# EAGLE library part MICRO-USB-RECEPTACLE (library con-molex-usb)
MICRO USB RECEPTACLES Micro-USB Receptacles, SMT, Lead-Free from MOLEX <http://www.molex.com/>. (C) 2014 Tomasz Boleslaw CEDRO, cederom@tlen.pl, http://www.tomek.cedro.info. Version 0.1 (2014-01-17): Initial release. Version 0.2 (2014-02-06): Updated 47589-0001 footprint pins/pads/milling. Following devices are included: 1. 47589-0001 Micro-USB AB Receptacle, Bottom Mount, SMT, Lead-Free <http://www.molex.com/molex/products/datasheet.jsp?part=active/0475890001_IO_CONNECTORS.xml> (Technical Drawing <http://www.molex.com/pdm_docs/sd/475890001_sd.pdf>).
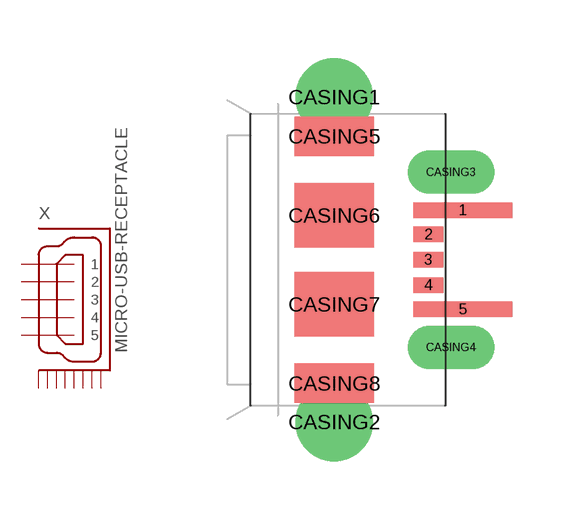
[diagram p0: symbol with the pads of 47589-0001; footprint 47589-0001]

Designator prefix X

## MICRO-USB-RECEPTACLE47589-0001  [47589-0001]
1  1  in
2  2  nc
3  3  nc
4  4  nc
5  5  in
CASING1  GND1
CASING2  GND2
CASING3  GND3
CASING4  GND4
CASING5  GND5
CASING6  GND6
CASING7  GND7
CASING8  GND8

## Footprint 47589-0001 (pad centres in mm)
MICRO USB RECEPTACLES Micro-USB Receptacles, SMT, Lead-Free from MOLEX <http://www.molex.com/>. (C) 2014 Tomasz Boleslaw CEDRO, cederom@tlen.pl, http://www.tomek.cedro.info. Version 0.1 (2014-01-17): Initial release. Version 0.2 (2014-02-06): Updated 47589-0001 footprint pins/pads/milling. Following devices are included: 1. 47589-0001 Micro-USB AB Receptacle, Bottom Mount, SMT, Lead-Free <http://www.molex.com/molex/products/datasheet.jsp?part=active/0475890001_IO_CONNECTORS.xml> (Technical Drawing <http://www.molex.com/pdm_docs/sd/475890001_sd.pdf>).
smd 2.54 x 0.4: 1 3.308,1.275; 5 3.308,-1.275
smd 0.762 x 0.4: 2 2.419,0.65; 3 2.419,0; 4 2.419,-0.65
drill 1 pad 2: CASING1 0,4.175; CASING2 0,-4.175
drill 0.61 pad 1.1 long: CASING3 3,2.25; CASING4 3,-2.25
smd 2.032 x 1.016: CASING5 0,3.175; CASING8 0,-3.175
smd 2.032 x 1.651: CASING6 0,1.143; CASING7 0,-1.143